# Altium schematic symbol library C4289.SchLib: 1 symbol
Pins are listed as number, name and electrical type; pins without a type are passive.

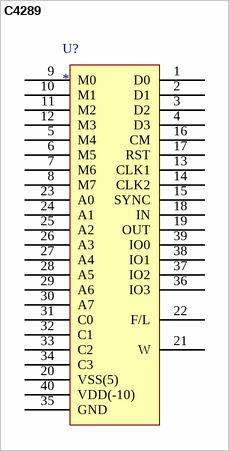
[diagram p0: symbol C4289]

## C4289
designator U?
footprint C4289
pins: 1 D0, 2 D1, 3 D2, 4 D3, 5 M4, 6 M5, 7 M6, 8 M7, 9 M0, 10 M1, 11 M2, 12 M3, 13 CLK1, 14 CLK2, 15 SYNC, 16 CM, 17 RST, 18 IN, 19 OUT, 20 VSS(5), 21 W, 22 F/L, 23 A0, 24 A1, 25 A2, 26 A3, 27 A4, 28 A5, 29 A6, 30 A7, 31 C0, 32 C1, 33 C2, 34 C3, 35 GND, 36 IO3, 37 IO2, 38 IO1, 39 IO0, 40 VDD(-10)